# Altium schematic symbol library ERJU14F3000U.SchLib: 1 symbol
Pins are listed as number, name and electrical type; pins without a type are passive.

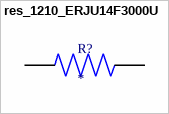
[diagram p0: symbol res_1210_ERJU14F3000U]

## res_1210_ERJU14F3000U
designator R?
RES_1210; MP: ERJU14F3000U; Availability: Unavailable; Package: None; Value: *; Price: None
footprint RES_ERJU14F3000U
pins: 1, 2